# Altium footprint library Footprints.PcbLib: 2 footprints
Each footprint in its own frame and in the unit in brackets; x right, y up, seen from the top. Pads: shape width x height; smd on the part's side, far side on the other; paste and mask are expansions set on the pad; w line width, h text height; cw(c..) or ccw(c..) is an arc to the next point about the centre after c.
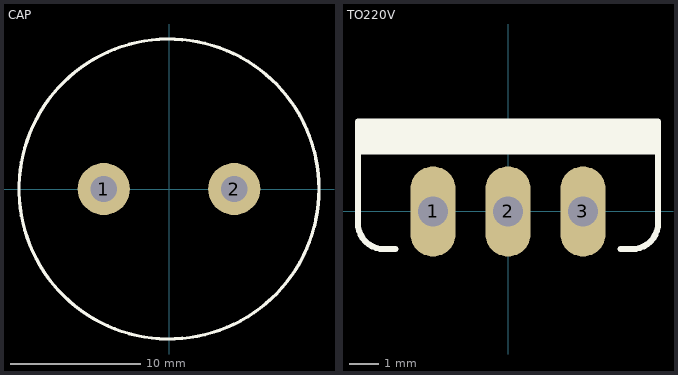
[diagram p0: the footprints below, top view; thin cyan lines are the x and y axes]

## CAP [mm]
pads (2):
  round 4 hole 2: 1(-5,0) 2(5,0)
Top Overlay:
  circle w0.254: c0,0 r11.5

## TO220V [mil]
pads (3):
  oval 60x120 hole 40: 1(-100,0) 2(0,0) 3(100,0)
Top Overlay:
  rectangle: -200,80 200,120
  lines w8: -150,-50 -165,-50 cw(c-165.83,-15.83) -200,-15 -200,80 ; 150,-50 165,-50 ccw(c165.83,-15.83) 200,-15 200,80 ; -200,80 -200,120 200,120 200,80 ; -200,80 200,80